# Altium footprint library MULTI RELY.PcbLib: 25 footprints (part 1 of 2)
Each footprint in its own frame and in the unit in brackets; x right, y up, seen from the top. Pads: shape width x height; smd on the part's side, far side on the other; paste and mask are expansions set on the pad; w line width, h text height; cw(c..) or ccw(c..) is an arc to the next point about the centre after c.
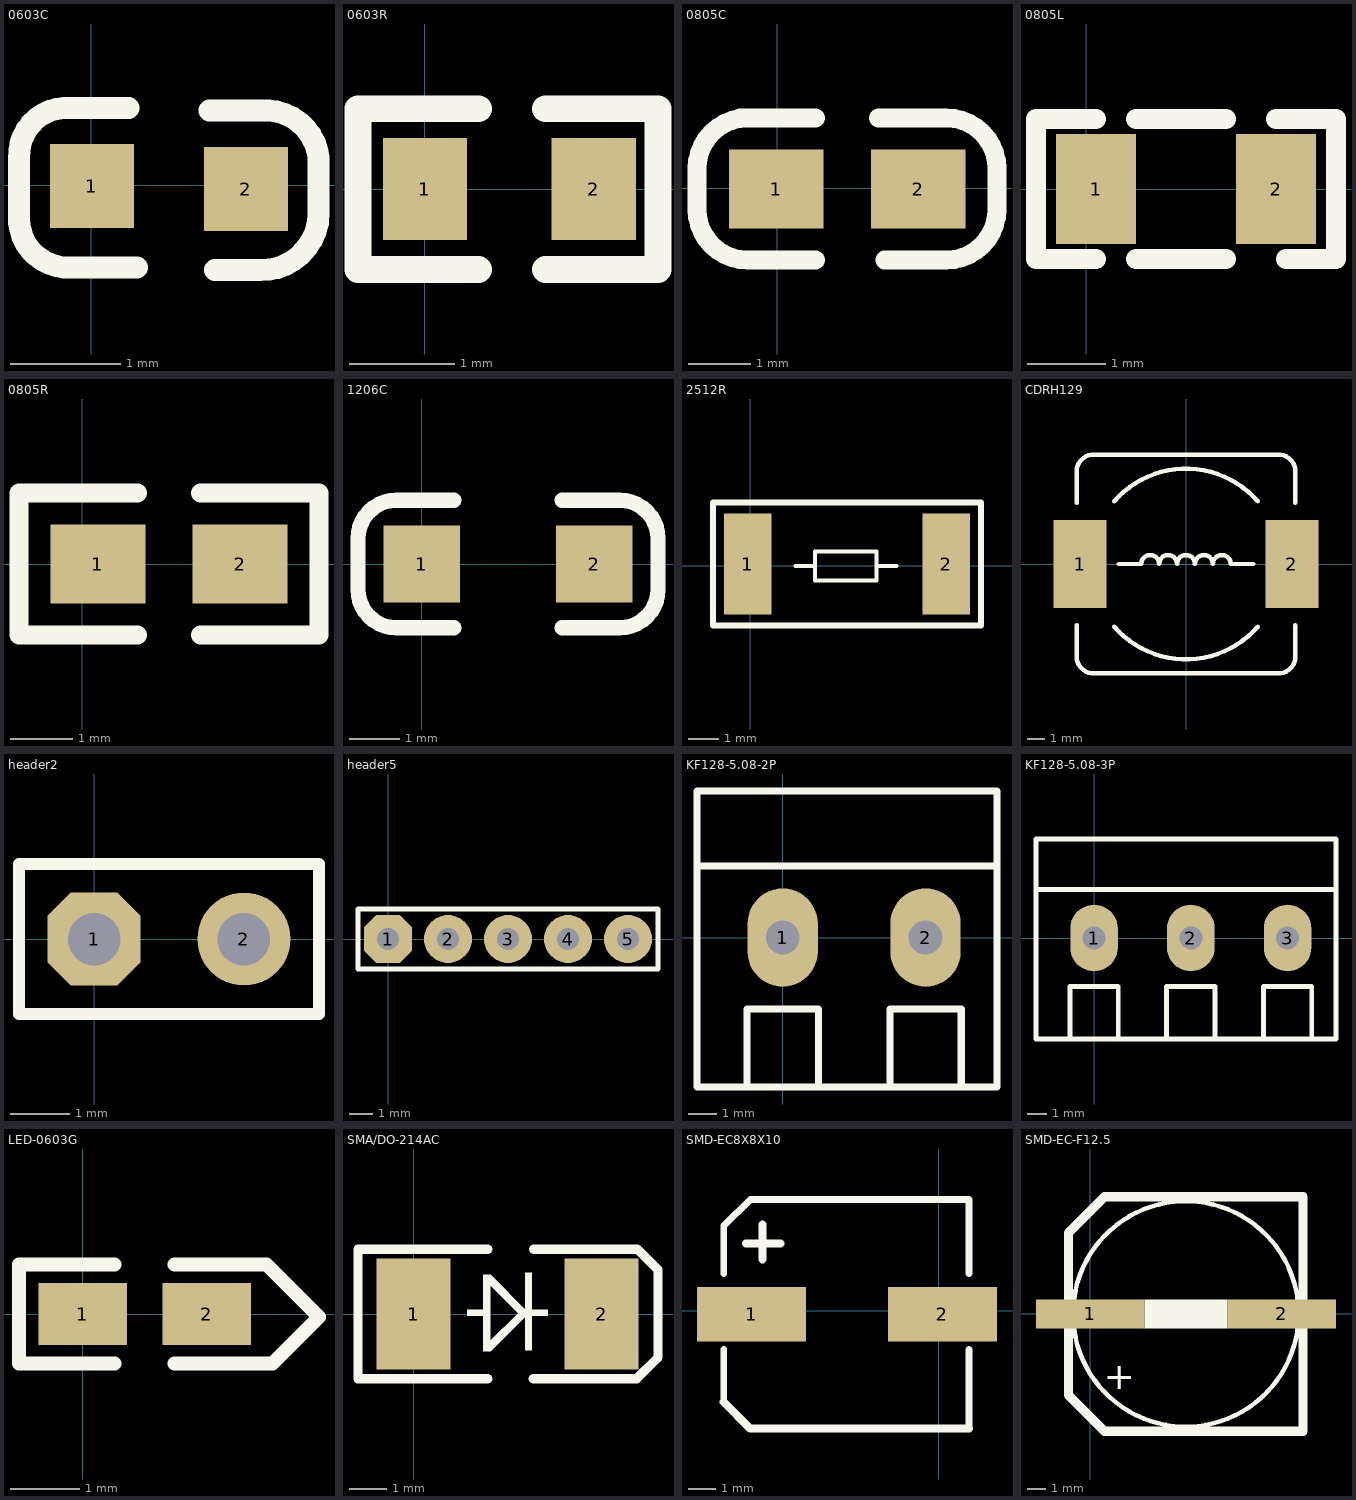
[diagram p0: the footprints below, top view; thin cyan lines are the x and y axes]

## 0603C [mil]
pads (2):
  rect 30x30 smd: 1(0.21,-0.35) 2(55.21,-1.35)
Top Overlay:
  lines w7.87: 13.21,27.65 -9.79,27.65 ccw(c-8.79,10.65) -25.79,9.65 -25.79,-10.35 ccw(c-8.29,-11.85) -9.79,-29.35 16.21,-29.35 ; 42.21,26.65 60.21,26.65 cw(c62.21,7.65) 81.21,9.65 81.21,-10.35 cw(c60.71,-9.85) 60.21,-30.35 44.21,-30.35
3D body "0603 SMD Capacitor.STEP": height 11.89, standoff 0, extent -1.49,-14.99 61.5,16.5

## 0603R [mm]
pads (2):
  rect 0.8x0.965 smd: 1(0,0) 2(1.6,0)
Top Overlay:
  lines w0.254: 0.508,-0.762 -0.635,-0.762 -0.635,0.762 0.508,0.762 ; 1.143,-0.762 2.21,-0.762 2.21,0.762 1.143,0.762
3D body "RES0603.STEP": height 0.45, standoff 0, extent -0.038,-0.41 1.562,0.41

## 0805C [mil]
pads (2):
  rect 60x50 smd: 1(-0.71,-0.4) 2(89.29,-0.4)
Top Overlay:
  lines w12: -50.85,-13.26 ccw(c-18.71,-13.26) -18.71,-45.4 24.29,-45.4 ; -50.85,-12.26 -50.85,12.6 cw(c-18.71,12.6) -18.71,44.74 ; -23.71,44.6 24.29,44.6 ; 64.29,44.6 107.29,44.6 ; 68.15,-45.4 107.15,-45.4 ccw(c107.15,-13.26) 139.29,-13.26 139.29,11.6 ; 107.15,44.74 cw(c107.15,12.6) 139.29,12.6
3D body "0805 SMD Capacitor.STEP": height 30.79, standoff 0, extent 5.64,-24.6 84.37,24.61

## 0805L [mil]
pads (2):
  rect 40x55 smd: 1(5,0) 2(95,0)
Top Overlay:
  lines w10: 5,-35 -25,-35 -25,35 5,35 ; 25,-35 70,-35 ; 25,35 70,35 ; 95,35 125,35 125,-35 100,-35
3D body "0805L.STEP": height 35.43, standoff 0, extent 15,-23.62 93.74,23.62

## 0805R [mil]
pads (2):
  rect 60x50 smd: 1(10,0) 2(100,0)
Top Overlay:
  lines w12: 35,-45 -40,-45 -40,45 35,45 ; 75,-45 150,-45 150,45 75,45
3D body "RES0805.STEP": height 15, standoff -1.14, extent 11.26,-24.6 90,24.61

## 1206C [mil]
pads (2):
  rect 60x60 smd: 1(0,0) 2(135,0)
Top Overlay:
  lines w12: 25,-50 -20,-50 cw(c-20,-20) -50,-20 -50,20 cw(c-20,20) -20,50 25,50 ; 110,-50 155,-50 ccw(c155,-20) 185,-20 185,20 ccw(c155,20) 155,50 ; 155,50 110,50 155,50
3D body "1206 SMD Capacitor.STEP": height 39.45, standoff 0, extent 2.01,-31.49 128,31.5

## 2512R [mil]
pads (2):
  rect 61x129.92 smd: 1(-3.11,2) 2(251.89,2)
Top Overlay:
  lines w5.12: 58.04,-0.61 83.63,-0.61 ; 162.37,-0.61 187.96,-0.61 ; 83.63,-19.31 162.37,-19.31 162.37,18.09 83.63,18.09 83.63,-19.31
  lines w7.87: -47.39,-76.74 296.17,-76.74 296.17,80.74 -47.39,80.74 -47.39,-76.74
3D body "User Library-res2512_body.step": height 24.44, standoff 0, extent 0,-63 248.79,63

## CDRH129 [mm]
pads (2):
  rect 3x5 smd: 1(-6,0) 2(6,0)
Top Overlay:
  lines w0.254: -6.2,-3.475 -6.2,-5.23 ccw(c-5.23,-5.23) -5.23,-6.2 5.23,-6.2 ccw(c5.23,-5.23) 6.2,-5.23 6.2,-3.475 ; -6.2,3.475 -6.2,5.23 cw(c-5.23,5.23) -5.23,6.2 5.23,6.2 cw(c5.23,5.23) 6.2,5.23 6.2,3.475 ; -4.064,-3.556 ccw(c0,0) 4.064,-3.556 ; -4.064,3.556 cw(c0,0) 4.064,3.556 ; -3.81,0 -2.54,0 cw(c-2.032,0) -1.524,0 cw(c-1.016,0) -0.508,0 cw(c0,0) 0.508,0 cw(c1.016,0) 1.524,0 cw(c2.032,0) 2.54,0 3.81,0
3D body "CDRH129.STEP": height 9.65, standoff 0.05, extent -6.127,-5.904 5.873,6.096

## header2 [mil]
pads (2):
  oct 62x62 hole 35: 1(0,0)
  round 62 hole 35: 2(100,0)
Top Overlay:
  lines w8: -50,-50 150,-50 150,50 -50,50 -50,-50
3D body "HEADER 2.STEP": height 397.64, standoff -59.06, extent -50,-50 150,50

## header5 [mil]
pads (5):
  oct 80x80 hole 36: 1(0,0)
  round 80 hole 36: 2(100,0) 3(200,0) 4(300,0) 5(400,0)
Top Overlay:
  lines w8: -50,-50 450,-50 450,50 -50,50 -50,-50
3D body "HEADER 5.STEP": height 397.64, standoff -59.06, extent -50,-50 450,50

## KF128-5.08-2P [mm]
pads (2):
  oval 2.5x3.5 hole 1.2: 1(0,0) 2(5.08,0)
Top Overlay:
  lines w0.254: -3.048,2.54 7.62,2.54 ; -1.27,-5.309 -1.27,-2.54 1.27,-2.54 1.27,-5.309 ; 3.81,-5.309 3.81,-2.54 6.35,-2.54 6.35,-5.309 ; -3.048,-5.309 7.62,-5.309 7.62,5.207 -3.048,5.207 -3.048,-5.309
3D body "KF128-5.08-.STEP": height 14.15, standoff -3.95, extent 2.032,-5.377 7.612,5.123
3D body "KF128-5.08-.STEP": height 14.15, standoff -3.95, extent -3.048,-5.377 2.532,5.123

## KF128-5.08-3P [mm]
pads (3):
  oval 2.5x3.5 hole 1.2: 1(0,0) 2(5.08,0) 3(10.16,0)
Top Overlay:
  lines w0.254: -3.048,2.54 12.7,2.54 ; -1.27,-5.309 -1.27,-2.54 1.27,-2.54 1.27,-5.309 ; 3.81,-5.309 3.81,-2.54 6.35,-2.54 6.35,-5.309 ; 8.89,-5.309 8.89,-2.54 11.43,-2.54 11.43,-5.309 ; -3.048,-5.309 12.7,-5.309 12.7,5.207 -3.048,5.207 -3.048,-5.309
3D body "KF128-5.08-.STEP": height 14.15, standoff -3.95, extent 7.112,-5.377 12.692,5.123
3D body "KF128-5.08-.STEP": height 14.15, standoff -3.95, extent 2.032,-5.377 7.612,5.123
3D body "KF128-5.08-.STEP": height 14.15, standoff -3.95, extent -3.048,-5.377 2.532,5.123

## LED-0603G [mil]
pads (2):
  rect 50x35 smd: 1(0,0.26) 2(70,0.26)
Top Overlay:
  lines w8: 18,-27.74 -36,-27.74 -36,-25.74 -36,28.26 -35,28.26 18,28.26 ; 52,-27.74 107.26,-27.74 133.5,-1.5 103.75,28.26 52,28.26
3D body "17.STEP": height 23.82, standoff -0.04, extent 3.5,-15 66.5,16.58

## SMA/DO-214AC [mm]
pads (2):
  rect 2x3 smd: 1(0,0) 2(5.08,0)
Top Overlay:
  region: 3.089,-0.012 2.936,0.141 1.931,-0.864 2.084,-1.017
  rectangle: 1.88,-1.016 2.083,1.067
  rectangle: 3.01,-0.991 3.2,1.118
  region: 1.905,-0.051 1.905,0.127 1.448,0.127 1.448,-0.051
  region: 2.935,-0.091 3.088,0.062 2.083,1.067 1.93,0.914
  region: 3.632,-0.051 3.632,0.127 3.15,0.127 3.15,-0.051
  lines w0.254: 2,-1.75 -1.5,-1.75 -1.5,1.75 2,1.75 ; 3.23,-1.753 3.232,-1.75 5.795,-1.75 6.026,-1.75 6.583,-1.194 6.604,-1.172 6.604,1.194 6.048,1.75 5.817,1.75 3.254,1.75 3.251,1.753
3D body "DO-214AC.STEP": height 2.4, standoff 0, extent 0.24,-1.35 4.84,1.35

## SMD-EC8X8X10 [mm]
pads (2):
  rect 4x2 smd: 1(-6.858,-0.127) 2(0.142,-0.127)
Top Overlay:
  lines w0.254: -7.878,-1.422 -7.878,-3.349 -6.909,-4.318 1.118,-4.318 1.118,-1.422 ; -7.878,1.372 -7.878,3.108 -6.904,4.082 1.118,4.082 1.118,1.372
  lines w0.3: -7.878,-3.344 -7.878,-3.349 -6.909,-4.318 1.118,-4.318 ; -7.061,2.473 -5.791,2.473 ; -6.452,1.889 -6.452,3.159
3D body "ALU-F_8.0x8.3x10.2.STEP": height 10.2, standoff 0, extent -8.379,-4.277 1.521,4.023

## SMD-EC-F12.5 [mm]
pads (2):
  rect 6x1.6 smd: 1(0,0) 2(10.625,0)
Top Overlay:
  circle w0.254: c5.303,0 r6.25
  rectangle: 3.019,-0.8 7.601,0.8
  lines w0.508: -1.202,-4.498 0.799,-6.499 11.797,-6.499 11.797,6.495 0.799,6.495 0.797,6.493 -1.202,4.494 -1.202,-4.498
  text "+" at 0.75,-4.168 h1.52